# Altium integrated library Integrated_Library.IntLib: 7 symbols
Pins are listed as number, name and electrical type; pins without a type are passive.

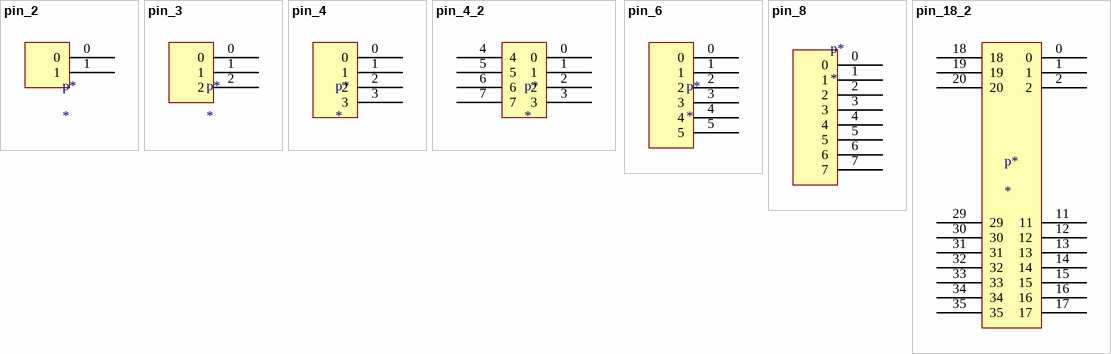
[diagram p0: symbols pin_2 to pin_18_2]

## pin_2
designator p*
footprint PIN_2
pins: 0, 1

## pin_3
designator p*
footprint PIN_3
pins: 0, 1, 2

## pin_4
designator p*
footprint pin_4
pins: 0, 1, 2, 3

## pin_4_2
designator p*
footprint pin_4_2
pins: 0, 1, 2, 3, 4, 5, 6, 7

## pin_6
designator p*
footprint pin_6
pins: 0, 1, 2, 3, 4, 5

## pin_8
designator p*
footprint pin_8
footprint pin_8_S
pins: 0, 1, 2, 3, 4, 5, 6, 7

## pin_18_2
designator p*
footprint pin_18_2
pins: 0, 1, 2, 11, 12, 13, 14, 15, 16, 17, 18, 19, 20, 29, 30, 31, 32, 33, 34, 35